# EAGLE library part ESP12-TR (library esp8266modules)
ESP8266 Wifi module 12
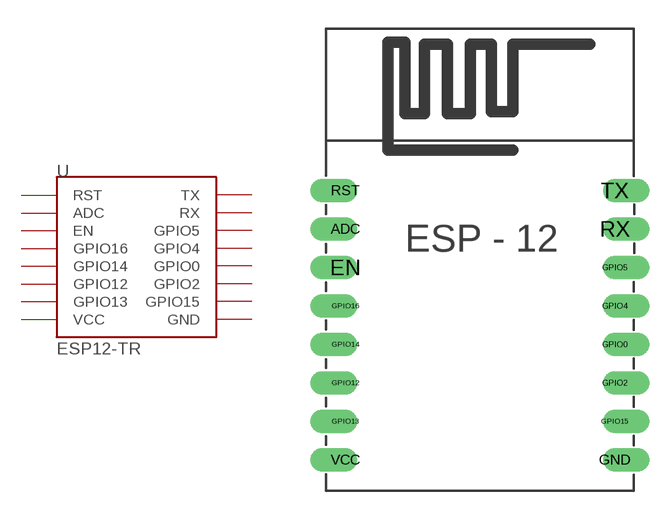
[diagram p18: symbol with the pads of ESP12-TR; footprint ESP12-TR]

Designator prefix U

## ESP12-TR  [ESP12-TR]
ADC  ADC
EN  EN
GND  GND
GPIO0  GPIO0
GPIO2  GPIO2
GPIO4  GPIO4
GPIO5  GPIO5
GPIO12  GPIO12
GPIO13  GPIO13
GPIO14  GPIO14
GPIO15  GPIO15
GPIO16  GPIO16
RST  RST
RX  RX
TX  TX
VCC  VCC

## Footprint ESP12-TR (pad centres in mm)
ESP8266 Module 12
drill 0.7 offset: ADC -7.1,3.8; EN -7.1,1.8; GND 6.9,-8.2; GPIO0 6.9,-2.2; GPIO2 6.9,-4.2; GPIO4 6.9,-0.2; GPIO5 6.9,1.8; GPIO12 -7.1,-4.2; GPIO13 -7.1,-6.2; GPIO14 -7.1,-2.2; GPIO15 6.9,-6.2; GPIO16 -7.1,-0.2; RST -7.1,5.8; RX 6.9,3.8; TX 6.9,5.8; VCC -7.1,-8.2